# Altium footprint library SO-8S.PcbLib: 1 footprints
Each footprint in its own frame and in the unit in brackets; x right, y up, seen from the top. Pads: shape width x height; smd on the part's side, far side on the other; paste and mask are expansions set on the pad; w line width, h text height; cw(c..) or ccw(c..) is an arc to the next point about the centre after c.
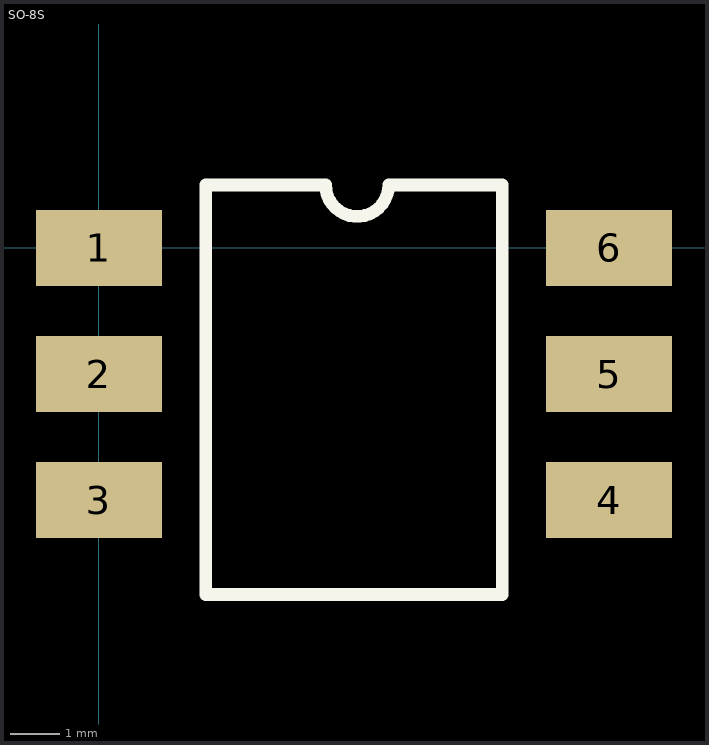
[diagram p0: the footprint, top view; thin cyan lines are the x and y axes]

## SO-8S [mil]
pads (6):
  rect 100x60 smd: 1(0,0) 2(0,-100) 3(0,-200) 4(405,-200) 5(405,-100) 6(405,0)
TopOverlay:
  lines w10: 85,-275 85,50 180,50 ccw(c205,50) 230,50 320,50 320,-275 85,-275